# EAGLE library part MAX2771ETI+ (library MAX2771ETI+)
MAXIM INTEGRATED PRODUCTS - MAX2771ETI+ - GNSS RX, 1.57542GHZ, -40 TO 85DEG C Source: Datasheet
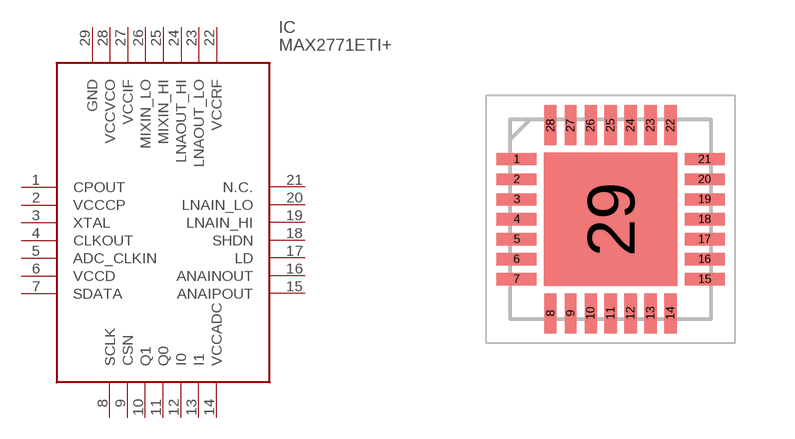
[diagram p0: symbol with the pads of QFN50P500X500X80-29N; footprint QFN50P500X500X80-29N]

Designator prefix IC

## MAX2771ETI+ (Description: MAXIM INTEGRATED PRODUCTS - MAX2771ETI+ - GNSS RX, 1.57542GHZ, -40 TO 85DEG C; Height: 0.8mm; Manufacturer_Name: Analog Devices; Manufacturer_Part_Number: MAX2771ETI+; Mouser_Part_Number: 700-MAX2771ETI+; Mouser_Price-Stock: https://www.mouser.co.uk/ProductDetail/Maxim-Integrated/MAX2771ETI%2b?qs=lc2O%252BfHJPVYuzqxyqJXfmg%3D%3D)  [QFN50P500X500X80-29N]
1  CPOUT
2  VCCCP
3  XTAL
4  CLKOUT
5  ADC_CLKIN
6  VCCD
7  SDATA
8  SCLK
9  CSN
10  Q1
11  Q0
12  I0
13  I1
14  VCCADC
15  ANAIPOUT
16  ANAINOUT
17  LD
18  SHDN
19  LNAIN_HI
20  LNAIN_LO
21  N.C.  nc
22  VCCRF
23  LNAOUT_LO
24  LNAOUT_HI
25  MIXIN_HI
26  MIXIN_LO
27  VCCIF
28  VCCVCO
29  GND

## Footprint QFN50P500X500X80-29N (pad centres in mm)
MAX2771ETI+-1
smd 1 x 0.3: 1 -2.35,1.5; 2 -2.35,1; 3 -2.35,0.5; 4 -2.35,0; 5 -2.35,-0.5; 6 -2.35,-1; 7 -2.35,-1.5; 15 2.35,-1.5; 16 2.35,-1; 17 2.35,-0.5; 18 2.35,0; 19 2.35,0.5; 20 2.35,1; 21 2.35,1.5
smd 0.3 x 1: 8 -1.5,-2.35; 9 -1,-2.35; 10 -0.5,-2.35; 11 0,-2.35; 12 0.5,-2.35; 13 1,-2.35; 14 1.5,-2.35; 22 1.5,2.35; 23 1,2.35; 24 0.5,2.35; 25 0,2.35; 26 -0.5,2.35; 27 -1,2.35; 28 -1.5,2.35
smd 3.35 x 3.35: 29 0,0